# Altium footprint library inductor.PcbLib: 6 footprints
Each footprint in its own frame and in the unit in brackets; x right, y up, seen from the top. Pads: shape width x height; smd on the part's side, far side on the other; paste and mask are expansions set on the pad; w line width, h text height; cw(c..) or ccw(c..) is an arc to the next point about the centre after c.
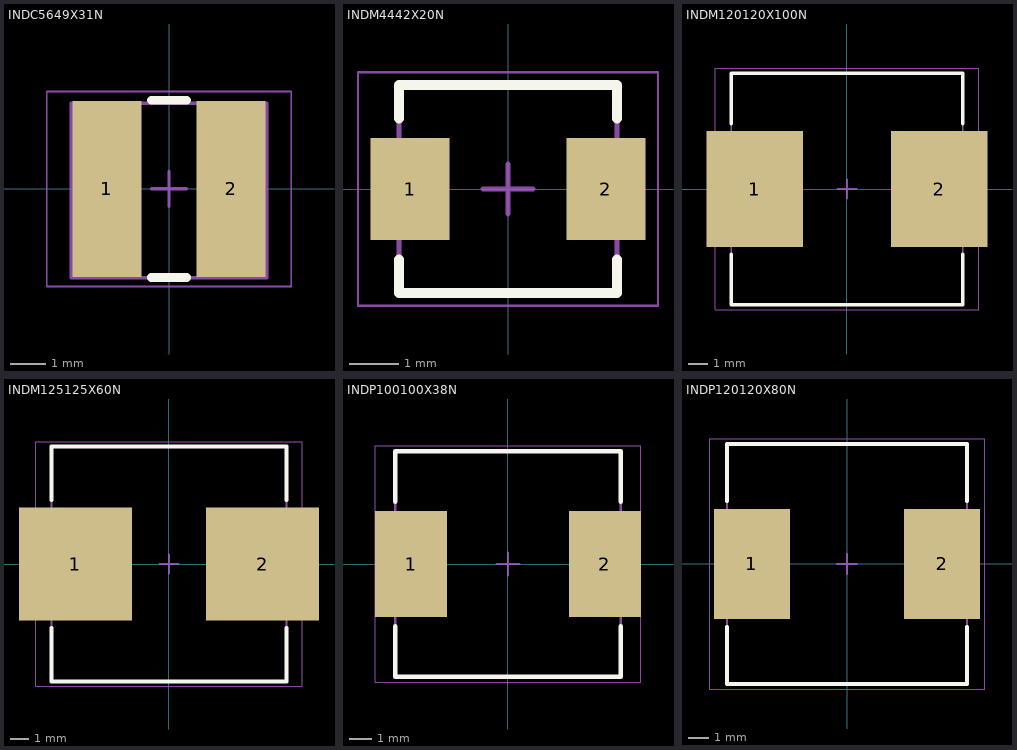
[diagram p0: the footprints below, top view; thin cyan lines are the x and y axes]

## INDC5649X31N [mm] "Chip Inductor, 2-Leads, Body 5.60x4.90mm, IPC Medium Density"
height 3.1
pads (2):
  rect 1.98x5.04 smd: 1(-1.778,0) 2(1.778,0)
Top Overlay:
  lines w0.254: -0.508,-2.54 0.508,-2.54 ; -0.508,2.54 0.508,2.54
Mechanical 13:
  lines w0.1: -2.8,-2.54 2.8,-2.54 2.8,2.45 -2.8,2.45 -2.8,-2.54
Mechanical 15:
  lines w0.05: -3.5,-2.8 3.5,-2.8 3.5,2.794 -3.5,2.794 -3.5,-2.8
  lines w0.1: -0.5,0 0.5,0 ; 0,-0.5 0,0.5
3D body: height 3.1, standoff 0, extent 1.05,-2.45 2.54,2.45
3D body: height 3.1, standoff 0, extent -2.379,-2.45 -0.889,2.45
3D body: height 3.1, standoff 0, extent -1.31,-2.45 1.31,2.45

## INDM4442X20N [mm] "Molded Inductor, 2-Leads, Body 4.40x4.20mm, IPC Medium Density"
height 2
pads (2):
  rect 1.6x2.05 smd: 1(-1.975,0) 2(1.975,0)
Top Overlay:
  lines w0.2: -2.2,-1.425 -2.2,-2.1 2.2,-2.1 2.2,-1.425 ; -2.2,1.425 -2.2,2.1 2.2,2.1 2.2,1.425
Mechanical 13:
  lines w0.1: -2.2,-2.1 -2.2,2.1 2.2,2.1 2.2,-2.1 -2.2,-2.1
Mechanical 15:
  lines w0.05: -3.025,-2.35 -3.025,2.35 3.025,2.35 3.025,-2.35 -3.025,-2.35
  lines w0.1: -0.5,0 0.5,0 ; 0,-0.5 0,0.5
3D body "INDM4442X20N.step": height 2, standoff 0, extent -2.42,-2.1 2.42,2.1

## INDM120120X100N [mm] "Molded Inductor, 2-Leads, Body 12.00x12.00mm, IPC Medium Density"
height 10
pads (2):
  rect 5x6 smd: 1(-4.775,0) 2(4.775,0)
Top Overlay:
  lines w0.2: -6,-3.4 -6,-6 6,-6 6,-3.4 ; -6,3.4 -6,6 6,6 6,3.4
Mechanical 13:
  lines w0.1: -6,-6 -6,6 6,6 6,-6 -6,-6
Mechanical 15:
  lines w0.05: -6.825,-6.25 -6.825,6.25 6.825,6.25 6.825,-6.25 -6.825,-6.25
  lines w0.1: -0.5,0 0.5,0 ; 0,-0.5 0,0.5
3D body "INDM120120X100N.step": height 10, standoff 0, extent -6.22,-6 6.22,6

## INDM125125X60N [mm] "Molded Inductor, 2-Leads, Body 12.50x12.50mm, IPC Medium Density"
height 6
pads (2):
  rect 6x6 smd: 1(-4.975,0) 2(4.975,0)
Top Overlay:
  lines w0.2: -6.25,-3.4 -6.25,-6.25 6.25,-6.25 6.25,-3.4 ; -6.25,3.4 -6.25,6.25 6.25,6.25 6.25,3.4
Mechanical 13:
  lines w0.1: -6.25,-6.25 -6.25,6.25 6.25,6.25 6.25,-6.25 -6.25,-6.25
Mechanical 15:
  lines w0.05: -7.075,-6.5 -7.075,6.5 7.075,6.5 7.075,-6.5 -7.075,-6.5
  lines w0.1: -0.5,0 0.5,0 ; 0,-0.5 0,0.5
3D body "INDM125125X60N.step": height 6, standoff 0, extent -6.47,-6.25 6.47,6.25

## INDP100100X38N [mm]
pads (2):
  rect 3.2x4.7 smd: 1(-4.3,0) 2(4.3,0)
Top Overlay:
  lines w0.2: -5,-2.75 -5,-5 5,-5 5,-2.75 ; -5,2.75 -5,5 5,5 5,2.75
Mechanical 13:
  lines w0.1: -5,-5 -5,5 5,5 5,-5 -5,-5
Mechanical 15:
  lines w0.05: -5.875,-5.25 -5.875,5.25 5.875,5.25 5.875,-5.25 -5.875,-5.25
  lines w0.1: -0.5,0 0.5,0 ; 0,-0.5 0,0.5
3D body "INDP100100X38N.step": height 3.9, standoff 0, extent -5.1,-5 5.1,5

## INDP120120X80N [mm] "Precision Wire Wound Inductor, 2-Leads, Body 12.00x12.00mm, IPC Medium Density"
height 8
pads (2):
  rect 3.8x5.5 smd: 1(-4.75,0) 2(4.75,0)
Top Overlay:
  lines w0.2: -6,-3.15 -6,-6 6,-6 6,-3.15 ; -6,3.15 -6,6 6,6 6,3.15
Mechanical 13:
  lines w0.1: -6,-6 6,-6 6,6 -6,6 -6,-6
Mechanical 15:
  lines w0.05: -6.875,-6.25 6.875,-6.25 6.875,6.25 -6.875,6.25 -6.875,-6.25
  lines w0.1: -0.5,0 0.5,0 ; 0,-0.5 0,0.5
3D body "INDP120120X80N.step": height 8.1, standoff 0, extent -6.1,-6 6.1,6